# EAGLE library part IRS2153D (library Amplifier_Parts)
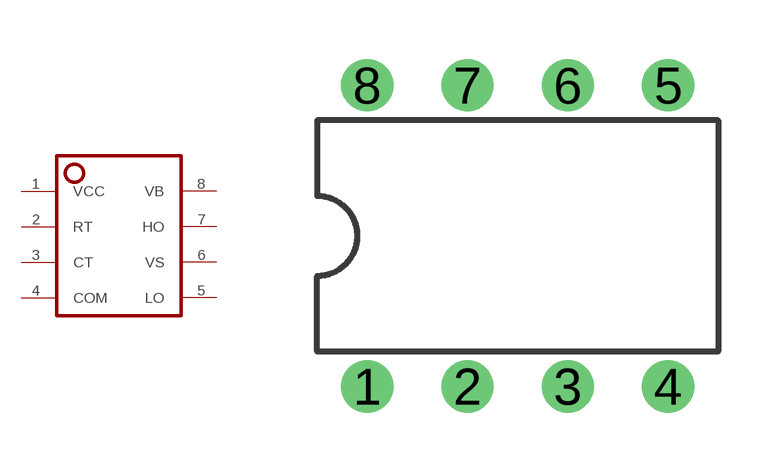
[diagram p3: symbol with the pads of IRS2153D; footprint IRS2153D]

Designator prefix -

## IRS2153D  [IRS2153D]
1  VCC
2  RT
3  CT
4  COM
5  LO
6  VS
7  HO
8  VB

## Footprint IRS2153D (pad centres in mm)
drill 0.813 pad 1.27: 1 -3.81,-3.81; 2 -1.27,-3.81; 3 1.27,-3.81; 4 3.81,-3.81; 5 3.81,3.81; 6 1.27,3.81; 7 -1.27,3.81; 8 -3.81,3.81